# Altium schematic symbol library RES,Thermistor,NTC,10R,9A.Schlib: 1 symbol
Pins are listed as number, name and electrical type; pins without a type are passive.

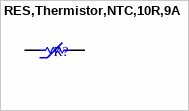
[diagram p0: symbol RES,Thermistor,NTC,10R,9A]

## RES,Thermistor,NTC,10R,9A
designator R?
pins: 1, 2